# Altium footprint library LM2596.PcbLib: 1 footprints
Each footprint in its own frame and in the unit in brackets; x right, y up, seen from the top. Pads: shape width x height; smd on the part's side, far side on the other; paste and mask are expansions set on the pad; w line width, h text height; cw(c..) or ccw(c..) is an arc to the next point about the centre after c.
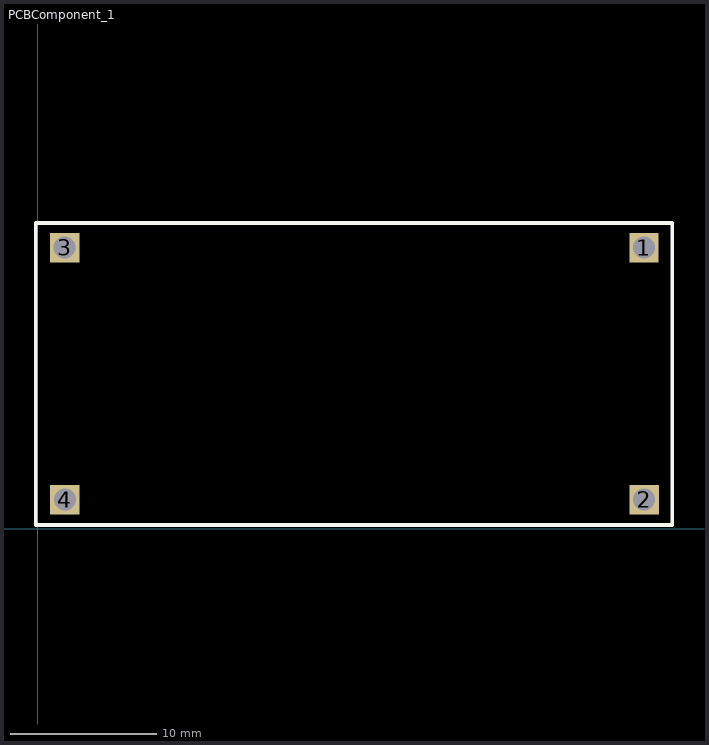
[diagram p0: the footprint, top view; thin cyan lines are the x and y axes]

## PCBComponent_1 [mm]
pads (4):
  rect 2x2 hole 1.5: 1(41.336,19.16) 2(41.348,1.979) 3(1.839,19.169) 4(1.851,1.988)
Top Overlay:
  lines w0.254: -0.123,0.253 43.26,0.253 43.26,20.848 -0.123,20.848 -0.123,0.253
3D body "HW-411.STEP": height 13.15, standoff -0.82, extent -0.164,0.228 43.236,20.828